# Altium schematic symbol library Simulation_SPICE.SchLib: 41 symbols
Pins are listed as number, name and electrical type; pins without a type are passive.

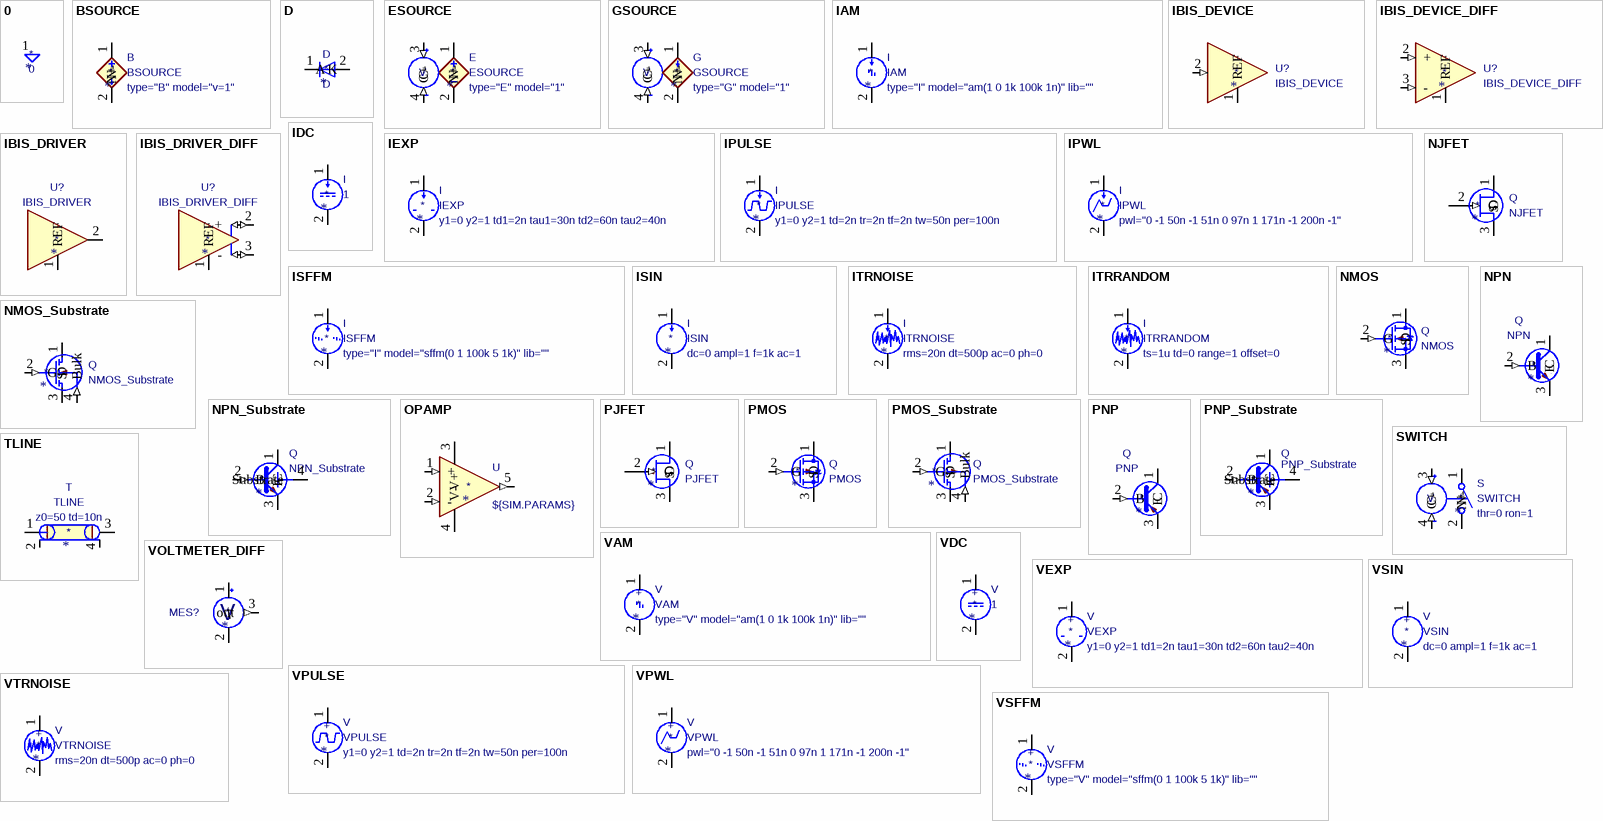
[diagram p0: symbols 0 to VTRNOISE]

## 0
designator *  value 0
0V reference potential for simulation; Reference: #GND; Datasheet: https://ngspice.sourceforge.io/docs/ngspice-html-manual/manual.xhtml#subsec_Circuit_elements__device; Description_: 0V reference potential for simulation; ki_keywords: simulation
pins: 1 (power)

## BSOURCE
designator *  value BSOURCE  Reference: B  Sim.Params: type="B" model="v=1"
Arbitrary behavioral voltage or current source for simulation only; Sim.Device: SPICE; ki_keywords: simulation dependent; Datasheet: https://ngspice.sourceforge.io/docs/ngspice-html-manual/manual.xhtml#sec_Non_linear_Dependent_Sources; Description_: Arbitrary behavioral voltage or current source for simulation only
pins: 1 N+, 2 N-

## D
designator *  value D
Diode for simulation or PCB; Sim.Pins: 1=K 2=A; Sim.Params: rs=50m cjo=10p; ki_fp_filters: TO-???* *_Diode_* *SingleDiode* D_*; Reference: D; Datasheet: https://ngspice.sourceforge.io/docs/ngspice-html-manual/manual.xhtml#cha_DIODEs; Description_: Diode for simulation or PCB; Sim.Device: D; ki_keywords: simulation
pins: 1 K, 2 A

## ESOURCE
designator *  value ESOURCE  Reference: E  Sim.Params: type="E" model="1"
Voltage-controlled voltage source symbol for simulation only; Sim.Device: SPICE; ki_keywords: simulation vcvs dependent; Datasheet: https://ngspice.sourceforge.io/docs/ngspice-html-manual/manual.xhtml#subsec_Exxxx__Linear_Voltage_Controlled; Description_: Voltage-controlled voltage source symbol for simulation only
pins: 1 N+, 2 N-, 3 C+ (in), 4 C- (in)
text: V

## GSOURCE
designator *  value GSOURCE  Reference: G  Sim.Params: type="G" model="1"
Voltage-controlled current source symbol for simulation only; Sim.Device: SPICE; ki_keywords: simulation vccs dependent; Datasheet: https://ngspice.sourceforge.io/docs/ngspice-html-manual/manual.xhtml#subsec_Gxxxx__Linear_Voltage_Controlled; Description_: Voltage-controlled current source symbol for simulation only
pins: 1 N+, 2 N-, 3 C+ (in), 4 C- (in)
text: V

## IAM
designator *  value IAM  Reference: I  Sim.Params: type="I" model="am(1 0 1k 100k 1n)" lib=""
Current source, AM; Sim.Pins: 1=1 2=2; Sim.Device: SPICE; ki_keywords: simulation amplitude modulated; Datasheet: https://ngspice.sourceforge.io/docs/ngspice-html-manual/manual.xhtml#sec_Independent_Sources_for; Description_: Current source, AM
pins: 1, 2

## IBIS_DEVICE
designator *  value IBIS_DEVICE  Reference: U?
Device model for IBIS files. Pin 3 can be used to monitor the die potential; Sim.Type: IBISDEVICE; Sim.Pins: 1=1 2=2; ki_keywords: Simulation IBIS; Datasheet: https://ibis.org; Description_: Device model for IBIS files. Pin 3 can be used to monitor the die potential; Sim.Device: IBIS
pins: 1 REF (power), 2 (in)

## IBIS_DEVICE_DIFF
designator *  value IBIS_DEVICE_DIFF  Reference: U?
Device model for IBIS files. Pin 3 can be used to monitor the die potential; Sim.Type: IBISDRIVERDC; Sim.Pins: 1=1 2=2 3=3; Ibis_Diff: 1; ki_keywords: Simulation IBIS; Datasheet: https://ibis.org; Description_: Device model for IBIS files. Pin 3 can be used to monitor the die potential; Sim.Device: IBIS
pins: 1 REF (power), 2 + (in), 3 - (in)

## IBIS_DRIVER
designator *  value IBIS_DRIVER  Reference: U?
Driver model for IBIS files.; Sim.Type: IBISDRIVERDC; Sim.Pins: 1=1 2=2; ki_keywords: Simulation IBIS; Datasheet: https://ibis.org; Description_: Driver model for IBIS files.; Sim.Device: IBIS
pins: 1 REF (power), 2 (io)

## IBIS_DRIVER_DIFF
designator *  value IBIS_DRIVER_DIFF  Reference: U?
Driver model for IBIS files. Pin 3 can be used to monitor the die potential.; Ibis_Diff: 1; Sim.Type: IBISDRIVERDC; Sim.Pins: 1=1 2=2 3=3; ki_keywords: Simulation IBIS; Datasheet: https://ibis.org; Description_: Driver model for IBIS files. Pin 3 can be used to monitor the die potential.; Sim.Device: IBIS
pins: 1 REF (power), 2 + (io), 3 - (io)

## IDC
designator *  value 1  Reference: I
Current source, DC; Sim.Pins: 1=+ 2=-; ki_keywords: simulation; Datasheet: https://ngspice.sourceforge.io/docs/ngspice-html-manual/manual.xhtml#sec_Independent_Sources_for; Description_: Current source, DC; Sim.Type: DC; Sim.Device: I
pins: 1, 2

## IEXP
designator *  value IEXP  Reference: I  Sim.Params: y1=0 y2=1 td1=2n tau1=30n td2=60n tau2=40n
Current source, exponential; Sim.Pins: 1=+ 2=-; Sim.Type: EXP; ki_keywords: simulation; Datasheet: https://ngspice.sourceforge.io/docs/ngspice-html-manual/manual.xhtml#sec_Independent_Sources_for; Description_: Current source, exponential; Sim.Device: I
pins: 1, 2

## IPULSE
designator *  value IPULSE  Reference: I  Sim.Params: y1=0 y2=1 td=2n tr=2n tf=2n tw=50n per=100n
Current source, pulse; Sim.Pins: 1=+ 2=-; ki_keywords: simulation; Datasheet: https://ngspice.sourceforge.io/docs/ngspice-html-manual/manual.xhtml#sec_Independent_Sources_for; Description_: Current source, pulse; Sim.Device: I; Sim.Type: PULSE
pins: 1, 2

## IPWL
designator *  value IPWL  Reference: I  Sim.Params: pwl="0 -1 50n -1 51n 0 97n 1 171n -1 200n -1"
Current source, piece-wise linear; Sim.Pins: 1=+ 2=-; Sim.Type: PWL; ki_keywords: simulation; Datasheet: https://ngspice.sourceforge.io/docs/ngspice-html-manual/manual.xhtml#sec_Independent_Sources_for; Description_: Current source, piece-wise linear; Sim.Device: I
pins: 1, 2

## ISFFM
designator *  value ISFFM  Reference: I  Sim.Params: type="I" model="sffm(0 1 100k 5 1k)" lib=""
Current source, single-frequency FM; Sim.Pins: 1=1 2=2; Sim.Device: SPICE; ki_keywords: simulation frequency modulated; Datasheet: https://ngspice.sourceforge.io/docs/ngspice-html-manual/manual.xhtml#sec_Independent_Sources_for; Description_: Current source, single-frequency FM
pins: 1, 2

## ISIN
designator *  value ISIN  Reference: I  Sim.Params: dc=0 ampl=1 f=1k ac=1
Current source, sinusoidal; Sim.Pins: 1=+ 2=-; Sim.Type: SIN; ki_keywords: simulation; Datasheet: https://ngspice.sourceforge.io/docs/ngspice-html-manual/manual.xhtml#sec_Independent_Sources_for; Description_: Current source, sinusoidal; Sim.Device: I
pins: 1, 2

## ITRNOISE
designator *  value ITRNOISE  Reference: I  Sim.Params: rms=20n dt=500p ac=0 ph=0
Current source, transient noise; Sim.Pins: 1=+ 2=-; Sim.Type: WHITENOISE; ki_keywords: simulation; Datasheet: https://ngspice.sourceforge.io/docs/ngspice-html-manual/manual.xhtml#subsec_Transient_noise_source; Description_: Current source, transient noise; Sim.Device: I
pins: 1, 2

## ITRRANDOM
designator *  value ITRRANDOM  Reference: I  Sim.Params: ts=1u td=0 range=1 offset=0
Current source, random noise; Sim.Pins: 1=+ 2=-; Sim.Type: RANDUNIFORM; ki_keywords: simulation; Datasheet: https://ngspice.sourceforge.io/docs/ngspice-html-manual/manual.xhtml#subsec_Random_voltage_source; Description_: Current source, random noise; Sim.Device: I
pins: 1, 2

## NJFET
designator *  value NJFET  Reference: Q
N-JFET transistor, for simulation only; Sim.Type: SHICHMANHODGES; Sim.Pins: 1=D 2=G 3=S; ki_keywords: transistor NJFET N-JFET; Datasheet: https://ngspice.sourceforge.io/docs/ngspice-html-manual/manual.xhtml#cha_JFETs; Description_: N-JFET transistor, for simulation only; Sim.Device: NJFET
pins: 1 D, 2 G (in), 3 S

## NMOS
designator *  value NMOS  Reference: Q
N-MOSFET transistor, drain/source/gate; Sim.Type: VDMOS; Sim.Pins: 1=D 2=G 3=S; ki_keywords: transistor NMOS N-MOS N-MOSFET simulation; Datasheet: https://ngspice.sourceforge.io/docs/ngspice-html-manual/manual.xhtml#cha_MOSFETs; Description_: N-MOSFET transistor, drain/source/gate; Sim.Device: NMOS
pins: 1 D, 2 G (in), 3 S

## NMOS_Substrate
designator *  value NMOS_Substrate  Reference: Q
N-channel MOSFET symbol with substrate (bulk) pin; Sim.Device: NMOS; Sim.Type: MOS1; Sim.Pins: 1=D 2=G 3=S 4=B; ki_keywords: mosfet nmos simulation; Datasheet: https://ngspice.sourceforge.io/docs/ngspice-html-manual/manual.xhtml#cha_MOSFETs; Description_: N-channel MOSFET symbol with substrate (bulk) pin
pins: 1 D, 2 G (in), 3 S, 4 Bulk (in)

## NPN
designator *  value NPN  Reference: Q
Bipolar transistor symbol for simulation only, substrate tied to the emitter; Sim.Type: GUMMELPOON; Sim.Pins: 1=C 2=B 3=E; Datasheet: https://ngspice.sourceforge.io/docs/ngspice-html-manual/manual.xhtml#cha_BJTs; Description_: Bipolar transistor symbol for simulation only, substrate tied to the emitter; Sim.Device: NPN; ki_keywords: simulation
pins: 1 C (oc), 2 B (in), 3 E (oe)

## NPN_Substrate
designator *  value NPN_Substrate  Reference: Q
Bipolar transistor symbol for simulation only, with substrate pin; Sim.Device: NPN; Sim.Type: GUMMELPOON; Sim.Pins: 1=C 2=B 3=E; Datasheet: https://ngspice.sourceforge.io/docs/ngspice-html-manual/manual.xhtml#cha_BJTs; Description_: Bipolar transistor symbol for simulation only, with substrate pin; ki_keywords: simulation
pins: 1 C (oc), 2 B (in), 3 E (oe), 4 Substrate

## OPAMP
designator *  value ${SIM.PARAMS}  Reference: U
Operational amplifier, single; Sim.Pins: 1=in+ 2=in- 3=vcc 4=vee 5=out; Sim.Device: SUBCKT; Sim.Library: ${KICAD9_SYMBOL_DIR}/Simulation_SPICE.sp; Sim.Name: kicad_builtin_opamp; ki_keywords: simulation; Datasheet: https://ngspice.sourceforge.io/docs/ngspice-html-manual/manual.xhtml#sec__SUBCKT_Subcircuits; Description_: Operational amplifier, single
pins: 1 + (in), 2 - (in), 3 V+ (power), 4 V- (power), 5 (out)

## PJFET
designator *  value PJFET  Reference: Q
P-JFET transistor, for simulation only; Sim.Type: SHICHMANHODGES; Sim.Pins: 1=D 2=G 3=S; ki_keywords: transistor PJFET P-JFET; Datasheet: https://ngspice.sourceforge.io/docs/ngspice-html-manual/manual.xhtml#cha_JFETs; Description_: P-JFET transistor, for simulation only; Sim.Device: PJFET
pins: 1 D, 2 G (in), 3 S

## PMOS
designator *  value PMOS  Reference: Q
P-MOSFET transistor, drain/source/gate; Sim.Type: VDMOS; Sim.Pins: 1=D 2=G 3=S; ki_keywords: transistor PMOS P-MOS P-MOSFET simulation; Datasheet: https://ngspice.sourceforge.io/docs/ngspice-html-manual/manual.xhtml#cha_MOSFETs; Description_: P-MOSFET transistor, drain/source/gate; Sim.Device: PMOS
pins: 1 D, 2 G (in), 3 S

## PMOS_Substrate
designator *  value PMOS_Substrate  Reference: Q
P-channel MOSFET symbol with substrate (bulk) pin; Sim.Device: PMOS; Sim.Type: MOS1; Sim.Pins: 1=D 2=G 3=S 4=B; ki_keywords: mosfet pmos simulation; Datasheet: https://ngspice.sourceforge.io/docs/ngspice-html-manual/manual.xhtml#cha_MOSFETs; Description_: P-channel MOSFET symbol with substrate (bulk) pin
pins: 1 D, 2 G (in), 3 S, 4 Bulk (in)

## PNP
designator *  value PNP  Reference: Q
Bipolar transistor symbol for simulation only, substrate tied to the emitter; Sim.Type: GUMMELPOON; Sim.Pins: 1=C 2=B 3=E; Datasheet: https://ngspice.sourceforge.io/docs/ngspice-html-manual/manual.xhtml#cha_BJTs; Description_: Bipolar transistor symbol for simulation only, substrate tied to the emitter; Sim.Device: PNP; ki_keywords: simulation
pins: 1 C (oc), 2 B (in), 3 E (oe)

## PNP_Substrate
designator *  value PNP_Substrate  Reference: Q
Bipolar transistor symbol for simulation only, with substrate pin; Sim.Device: PNP; Sim.Type: GUMMELPOON; Sim.Pins: 1=C 2=B 3=E; Datasheet: https://ngspice.sourceforge.io/docs/ngspice-html-manual/manual.xhtml#cha_BJTs; Description_: Bipolar transistor symbol for simulation only, with substrate pin; ki_keywords: simulation
pins: 1 C (oc), 2 B (in), 3 E (oe), 4 Substrate

## SWITCH
designator *  value SWITCH  Reference: S  Sim.Params: thr=0 ron=1
Voltage controlled switch symbol for simulation only; Sim.Device: SW; Sim.Type: V; Sim.Pins: 1=no+ 2=no- 3=ctrl+ 4=ctrl-; Datasheet: https://ngspice.sourceforge.io/docs/ngspice-html-manual/manual.xhtml#subsec_Switches; Description_: Voltage controlled switch symbol for simulation only; ki_keywords: simulation
pins: 1 N+, 2 N-, 3 C+ (in), 4 C- (in)

## TLINE
designator *  value TLINE  Reference: T  Sim.Params: z0=50 td=10n
Lossless transmission line, for simulation only; Sim.Pins: 1=1+ 2=1- 3=2+ 4=2-; ki_keywords: lossless transmission line characteristic impedance; Datasheet: https://ngspice.sourceforge.io/docs/ngspice-html-manual/manual.xhtml#sec_Lossless_Transmission_Lines; Description_: Lossless transmission line, for simulation only; Sim.Device: TLINE
pins: 1, 2, 3, 4

## VAM
designator *  value VAM  Reference: V  Sim.Params: type="V" model="am(1 0 1k 100k 1n)" lib=""
Voltage source, AM; Sim.Pins: 1=1 2=2; Sim.Device: SPICE; ki_keywords: simulation amplitude modulated; Datasheet: https://ngspice.sourceforge.io/docs/ngspice-html-manual/manual.xhtml#sec_Independent_Sources_for; Description_: Voltage source, AM
pins: 1, 2
text: +

## VDC
designator *  value 1  Reference: V
Voltage source, DC; Sim.Pins: 1=+ 2=-; ki_keywords: simulation; Datasheet: https://ngspice.sourceforge.io/docs/ngspice-html-manual/manual.xhtml#sec_Independent_Sources_for; Description_: Voltage source, DC; Sim.Type: DC; Sim.Device: V
pins: 1, 2
text: +

## VEXP
designator *  value VEXP  Reference: V  Sim.Params: y1=0 y2=1 td1=2n tau1=30n td2=60n tau2=40n
Voltage source, exponential; Sim.Pins: 1=+ 2=-; Sim.Type: EXP; ki_keywords: simulation; Datasheet: https://ngspice.sourceforge.io/docs/ngspice-html-manual/manual.xhtml#sec_Independent_Sources_for; Description_: Voltage source, exponential; Sim.Device: V
pins: 1, 2
text: +

## VOLTMETER_DIFF
designator *  Reference: MES?
Differential voltmeter for simulation. The sensed differential voltage can be measured on the third terminal as a single-ended voltage; Value: VOLTMETER_DIFF; Sim.Name: kicad_builtin_vdiff; Sim.Device: SUBCKT; Sim.Pins: 1=1 2=2 3=3; Sim.Library: ${KICAD9_SYMBOL_DIR}/Simulation_SPICE.sp; ki_keywords: voltmeter differential vdiff; Datasheet: https://ngspice.sourceforge.io/docs/ngspice-html-manual/manual.xhtml#sec__SUBCKT_Subcircuits; Description_: Differential voltmeter for simulation. The sensed differential voltage can be measured on the third terminal as a single-ended voltage
pins: 1 +, 2 -, 3 out (out)
text: V

## VPULSE
designator *  value VPULSE  Reference: V  Sim.Params: y1=0 y2=1 td=2n tr=2n tf=2n tw=50n per=100n
Voltage source, pulse; Sim.Pins: 1=+ 2=-; ki_keywords: simulation; Datasheet: https://ngspice.sourceforge.io/docs/ngspice-html-manual/manual.xhtml#sec_Independent_Sources_for; Description_: Voltage source, pulse; Sim.Type: PULSE; Sim.Device: V
pins: 1, 2
text: +

## VPWL
designator *  value VPWL  Reference: V  Sim.Params: pwl="0 -1 50n -1 51n 0 97n 1 171n -1 200n -1"
Voltage source, piece-wise linear; Sim.Pins: 1=+ 2=-; Sim.Type: PWL; ki_keywords: simulation; Datasheet: https://ngspice.sourceforge.io/docs/ngspice-html-manual/manual.xhtml#sec_Independent_Sources_for; Description_: Voltage source, piece-wise linear; Sim.Device: V
pins: 1, 2
text: +

## VSFFM
designator *  value VSFFM  Reference: V  Sim.Params: type="V" model="sffm(0 1 100k 5 1k)" lib=""
Voltage source, single-frequency FM; Sim.Pins: 1=1 2=2; Sim.Device: SPICE; ki_keywords: simulation frequency modulated; Datasheet: https://ngspice.sourceforge.io/docs/ngspice-html-manual/manual.xhtml#sec_Independent_Sources_for; Description_: Voltage source, single-frequency FM
pins: 1, 2
text: +

## VSIN
designator *  value VSIN  Reference: V  Sim.Params: dc=0 ampl=1 f=1k ac=1
Voltage source, sinusoidal; Sim.Pins: 1=+ 2=-; Sim.Type: SIN; ki_keywords: simulation ac vac; Datasheet: https://ngspice.sourceforge.io/docs/ngspice-html-manual/manual.xhtml#sec_Independent_Sources_for; Description_: Voltage source, sinusoidal; Sim.Device: V
pins: 1, 2
text: +

## VTRNOISE
designator *  value VTRNOISE  Reference: V  Sim.Params: rms=20n dt=500p ac=0 ph=0
Voltage source, transient noise; Sim.Pins: 1=+ 2=-; Sim.Type: WHITENOISE; ki_keywords: simulation; Datasheet: https://ngspice.sourceforge.io/docs/ngspice-html-manual/manual.xhtml#subsec_Transient_noise_source; Description_: Voltage source, transient noise; Sim.Device: V
pins: 1, 2
text: +

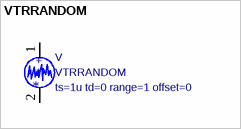
[diagram p1: symbol VTRRANDOM]

## VTRRANDOM
designator *  value VTRRANDOM  Reference: V  Sim.Params: ts=1u td=0 range=1 offset=0
Voltage source, random noise; Sim.Pins: 1=+ 2=-; Sim.Type: RANDUNIFORM; ki_keywords: simulation; Datasheet: https://ngspice.sourceforge.io/docs/ngspice-html-manual/manual.xhtml#subsec_Random_voltage_source; Description_: Voltage source, random noise; Sim.Device: V
pins: 1, 2
text: +